# EAGLE library part ACPL-C87B-000E (library ACPL-C87B-000E)
Optically isolated voltage sensor,SSO8 Broadcom ACPL-C87B-000E, Isolation Amplifier, 4.5 5.5 V, 8-Pin SSO Source: Datasheet <https://componentsearchengine.com/Datasheets/2/ACPL-C87B-000E.pdf>
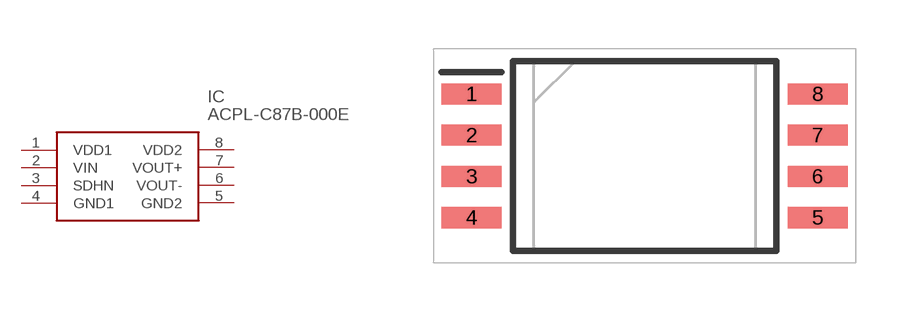
[diagram p0: symbol with the pads of SOIC127P1150X331-8N; footprint SOIC127P1150X331-8N]

Designator prefix IC

## ACPL-C87B-000E (Description: Optically isolated voltage sensor,SSO8 Broadcom ACPL-C87B-000E, Isolation Amplifier, 4.5 5.5 V, 8-Pin SSO; Height: 3.307mm; Manufacturer_Name: Avago Technologies; Manufacturer_Part_Number: ACPL-C87B-000E)  [SOIC127P1150X331-8N]
1  VDD1
2  VIN
3  SDHN
4  GND1
5  GND2
6  VOUT-
7  VOUT+
8  VDD2

## Footprint SOIC127P1150X331-8N (pad centres in mm)
Stretched S08
smd 1.85 x 0.65: 1 -5.325,1.905; 2 -5.325,0.635; 3 -5.325,-0.635; 4 -5.325,-1.905; 5 5.325,-1.905; 6 5.325,-0.635; 7 5.325,0.635; 8 5.325,1.905